# Altium schematic symbol library LC_sch_lib.SchLib: 9 symbols
Pins are listed as number, name and electrical type; pins without a type are passive.

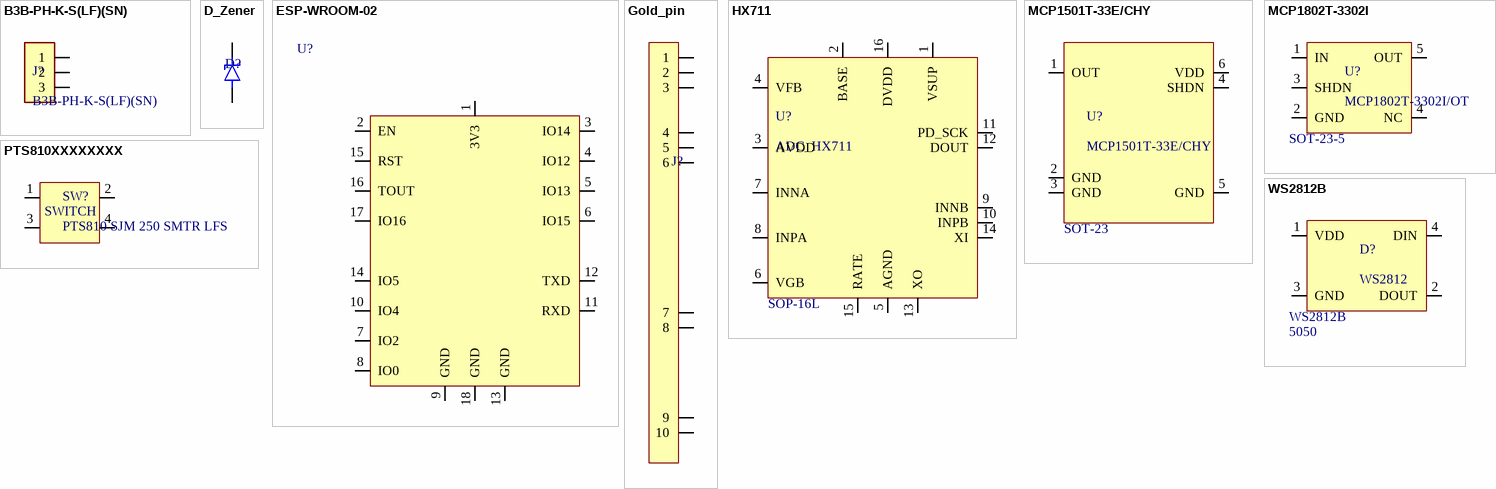
[diagram p0: symbols B3B-PH-K-S(LF)(SN) to WS2812B]

## B3B-PH-K-S(LF)(SN)
designator J?
Connector Header, PH Series, 3 Position, 2.00mm, Through Hole, Press-Fit, Solder, Natural; Datasheet: https://octopart.com/datasheet/b3b-ph-k-s%28lf%29%28sn%29-jst-248869; HelpURL: https://octopart.com/b3b-ph-k-s%28lf%29%28sn%29-jst-248869
footprint B3B-PH-K-S(LF)(SN)
footprint B3B-PH-K-S(LF)(SN)
pins: 1, 2, 3

## D_Zener
designator D?, comment ESD5Z2.5T1G  (value not drawn)
ESD protection diode, 4V; Datasheet: https://www.onsemi.com/pdf/datasheet/esd5z2.5t1-d.pdf; Package: SOD−523; PN: ESD5Z2.5T1G
footprint SODFL160X60-2N (SODFL, 2-Leads, Body 0.80x1.60mm, IPC Medium Density)
pins: 1 C, 2 A

## ESP-WROOM-02
designator U?, comment ESP-WROOM-02 module  (value not drawn)
The ESP8266 chip for wi-fi communication in the 2.4 GHz band. 3-3.6V SMD; Datasheet: https://www.espressif.com/sites/default/files/documentation/0c-esp-wroom-02_datasheet_en.pdf; Help_URL: https://botland.store/esp8266-wifi-modules/5391-wifi-system-esp8266-esp-wroom-02-smd-5904422333508.html
footprint ESP-WROOM-02 (The ESP8266 chip for  wi-fi communication in the 2.4 GHz band. 3-3.6V, SMD)
pins: 1 3V3, 2 EN, 3 IO14, 4 IO12, 5 IO13, 6 IO15, 7 IO2, 8 IO0, 9 GND, 10 IO4, 11 RXD, 12 TXD, 13 GND, 14 IO5, 15 RST, 16 TOUT, 17 IO16, 18 GND

## Gold_pin
designator J?, comment Gold_Pinx12  (value not drawn)
GoldPin Conector x12 pitch 2.54
footprint Gold_Pinx12 (Gold pin connector with 12 pin e = 2.54mm)
pins: 1, 2, 3, 4, 5, 6, 7, 8, 9, 10

## HX711
designator U?, comment ADC_HX711  Package: SOP-16L
24-Bit Analog-to-Digital Converter (ADC) for Weigh Scales; Datasheet: https://cdn.sparkfun.com/datasheets/Sensors/ForceFlex/hx711_english.pdf
footprint SparkFun SEN-13879 (SparkFun Load Cell Amplifier - HX711)
footprint SOP127P600X259-16N (SOP, 16-Leads, Body 9.90x3.90mm, Pitch 1.27mm, IPC Medium Density)
pins: 1 VSUP, 2 BASE, 3 AVDD, 4 VFB, 5 AGND, 6 VGB, 7 INNA, 8 INPA, 9 INNB, 10 INPB, 11 PD_SCK, 12 DOUT, 13 XO, 14 XI, 15 RATE, 16 DVDD

## MCP1501T-33E/CHY
designator U?  Package: SOT-23
Voltage References Precision Buffered Voltage Reference; DATA_SHEET: https://www.mouser.pl/datasheet/2/268/MCP1501_Data_Sheet_DS20005474F-2932251.pdf; HELP_LINK: https://www.mouser.pl/ProductDetail/Microchip-Technology-Atmel/MCP1501T-33E-CHY?qs=8cKuZ6Ok2lZxgW6mutm0tA%3D%3D
footprint SOT95P280X125-6N (SOT23, 6-Leads, Body 2.90x2.80mm, Pitch 0.95mm, IPC Medium Density)
pins: 1 OUT, 2 GND, 3 GND, 4 SHDN, 5 GND, 6 VDD

## MCP1802T-3302I
designator U?, comment MCP1802T-3302I/OT  Package: SOT-23-5
LDO Voltage Regulators 200 mA low quiescent current and low noise LDO; Datasheet: https://www.tme.eu/Document/a35250a3ec1de112ad6016307ea8a51d/MCP1802T-1802IO.pdf; HelpUrl: https://www.tme.eu/pl/en/details/mcp1802t-3302io/ldo-unregulated-voltage-regulators/microchip-technology/mcp1802t-3302i-ot/
footprint SOT95P280X145-5N (SOT23, 5-Leads, Body 2.90x2.80mm, Pitch 0.95mm, IPC Medium Density)
pins: 1 IN, 2 GND, 3 SHDN, 4 NC, 5 OUT

## PTS810XXXXXXXX
designator SW?, comment PTS810 SJM 250 SMTR LFS
TACT microswitch; SPST-NO; Pos: 2; 0.05A/16VDC; SMT; lack; Datasheet: https://www.tme.eu/Document/07a775ba34ae8afc76cf6dcf9fe6d1c4/PTS810SJG250SMTRLF.PDF; HelpURL: https://www.tme.eu/pl/details/pts810sjm250smtrlf/mikroprzelaczniki-tact/c-k/pts810-sjm-250-smtr-lfs/
footprint PTS810 SJM 250 SMTR LFS (switch)
pins: 1 IN, 2 OUT, 3 IN, 4 OUT
text: SWITCH

## WS2812B
designator D?, comment WS2812  Package: 5050  PN: WS2812B
RGB LED WS2812B 5050 ,5V.; Datasheet: https://cdn-shop.adafruit.com/datasheets/WS2812B.pdf
footprint WS2812B (RGB LED WS2812B 5050 ,5V.)
pins: 1 VDD, 2 DOUT, 3 GND, 4 DIN